# EAGLE library part DF12-32DS-0.5V (library ELL-i-Connectors)
Hirose DF12 32-pin male (receptable) 0.5 mm pitch SMT board-to-board connector Datasheet <https://www.sparkfun.com/datasheets/Cellular%20Modules/ADH8066connector.pdf> (from SparkFun) This connector is used in the TinyDuino boards <http://tiny-circuits.com/products/tinyduino/>.
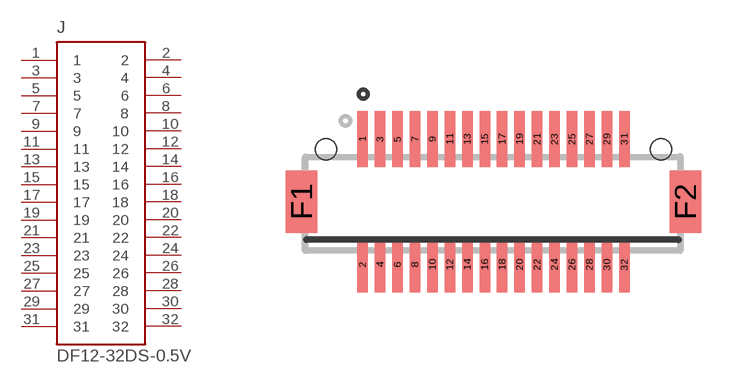
[diagram p1: symbol with the pads of DF12-32DS-0.5V; footprint DF12-32DS-0.5V]

Designator prefix J

## DF12-32DS-0.5V  [DF12-32DS-0.5V]
1  1
2  2
3  3
4  4
5  5
6  6
7  7
8  8
9  9
10  10
11  11
12  12
13  13
14  14
15  15
16  16
17  17
18  18
19  19
20  20
21  21
22  22
23  23
24  24
25  25
26  26
27  27
28  28
29  29
30  30
31  31
32  32

## Footprint DF12-32DS-0.5V (pad centres in mm)
Hirose DF12 32-pin male (receptable) pattern with metal fitting and boss Datasheet <https://www.sparkfun.com/datasheets/Cellular%20Modules/ADH8066connector.pdf> (from SparkFun)
smd 0.3 x 1.6: 1 -3.75,1.8; 2 -3.75,-1.8; 3 -3.25,1.8; 4 -3.25,-1.8; 5 -2.75,1.8; 6 -2.75,-1.8; 7 -2.25,1.8; 8 -2.25,-1.8; 9 -1.75,1.8; 10 -1.75,-1.8; 11 -1.25,1.8; 12 -1.25,-1.8; 13 -0.75,1.8; 14 -0.75,-1.8; 15 -0.25,1.8; 16 -0.25,-1.8; 17 0.25,1.8; 18 0.25,-1.8; 19 0.75,1.8; 20 0.75,-1.8; 21 1.25,1.8; 22 1.25,-1.8; 23 1.75,1.8; 24 1.75,-1.8; 25 2.25,1.8; 26 2.25,-1.8; 27 2.75,1.8; 28 2.75,-1.8; 29 3.25,1.8; 30 3.25,-1.8; 31 3.75,1.8; 32 3.75,-1.8
smd 0.9 x 1.8: F1 -5.5,0; F2 5.5,0
hole 0.6 at -4.8,1.5
hole 0.6 at 4.8,1.5